# EAGLE library part IR3899MTR1PBF (library circuit_tree)
IC
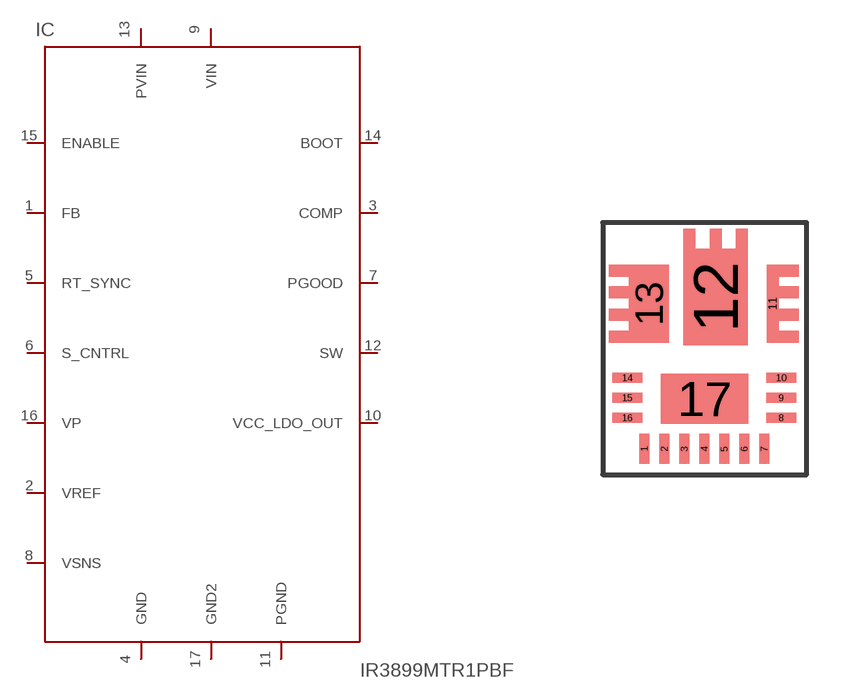
[diagram p3: symbol with the pads of IR3899MTR1PBF; footprint IR3899MTR1PBF]

Designator prefix IC

## IR3899MTR1PBF  [IR3899MTR1PBF]
1  FB  pas
2  VREF  pas
3  COMP  pas
4  GND  pas
5  RT_SYNC  pas
6  S_CNTRL  pas
7  PGOOD  pas
8  VSNS  pas
9  VIN  pas
10  VCC_LDO_OUT  pas
11  PGND  pas
12  SW  pas
13  PVIN  pas
14  BOOT  pas
15  ENABLE  pas
16  VP  pas
17  GND2  pas

## Footprint IR3899MTR1PBF (pad centres in mm)
smd 0.25 x 0.75: 1 0,0; 2 0.5,0; 3 1,0; 4 1.5,0; 5 2,0; 6 2.5,0; 7 3,0
smd 0.75 x 0.25: 8 3.425,0.78; 9 3.425,1.28; 10 3.425,1.78; 14 -0.425,1.78; 15 -0.425,1.28; 16 -0.425,0.78
smd 0.3 x 1.95: 11 3.22,3.63
smd 1.62 x 2.42: 12 1.786,3.8
smd 1 x 1.95: 13 0.117,3.63
smd 2.19 x 1.25: 17 1.51,1.26